# Altium footprint library TO-277.PcbLib: 1 footprints
Each footprint in its own frame and in the unit in brackets; x right, y up, seen from the top. Pads: shape width x height; smd on the part's side, far side on the other; paste and mask are expansions set on the pad; w line width, h text height; cw(c..) or ccw(c..) is an arc to the next point about the centre after c.
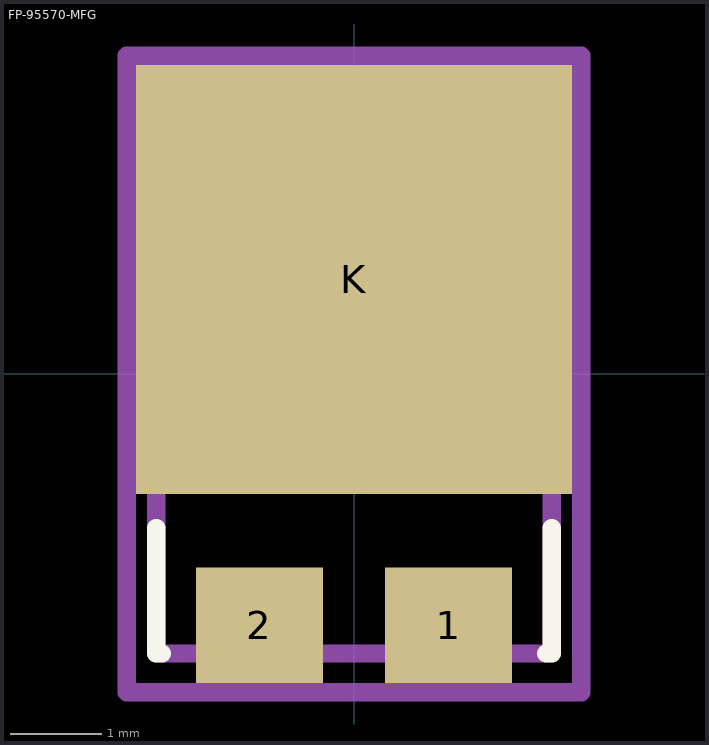
[diagram p0: the footprint, top view; thin cyan lines are the x and y axes]

## FP-95570-MFG [mm]
pads (3):
  rect 1.4x1.27 smd paste+0 mask+0: 1(1.04,-2.765) 2(-1.04,-2.765)
  rect 4.8x4.72 smd paste+0 mask+0: K(0,1.04)
Top Overlay:
  lines w0.2: -2.175,-1.695 -2.175,-3.075 -2.115,-3.075 ; 2.115,-3.075 2.175,-3.075 2.175,-1.695
Mechanical 5:
  lines w0.2: -2.5,-3.5 2.5,-3.5 2.5,3.5 -2.5,3.5 -2.5,-3.5
  text ".Designator" at 0,0 h1
Mechanical 13:
  lines w0.2: -2.175,-3.075 2.175,-3.075 2.175,3.075 -2.175,3.075 -2.175,-3.075
Mechanical 15:
  lines w0.2: -2.5,-3.5 2.5,-3.5 2.5,3.5 -2.5,3.5 -2.5,-3.5
Mechanical 16:
  lines w0.1: -0.5,0 0.5,0 ; 0,-0.5 0,0.5
3D body "Diode_Vishay_V10P10-M3-86A_eec.STEP": height 0.25, standoff 0, extent -2.5,-3.5 2.5,3.5